# Altium footprint library 医疗床16x16.PcbLib: 31 footprints (part 1 of 2)
Each footprint in its own frame and in the unit in brackets; x right, y up, seen from the top. Pads: shape width x height; smd on the part's side, far side on the other; paste and mask are expansions set on the pad; w line width, h text height; cw(c..) or ccw(c..) is an arc to the next point about the centre after c.
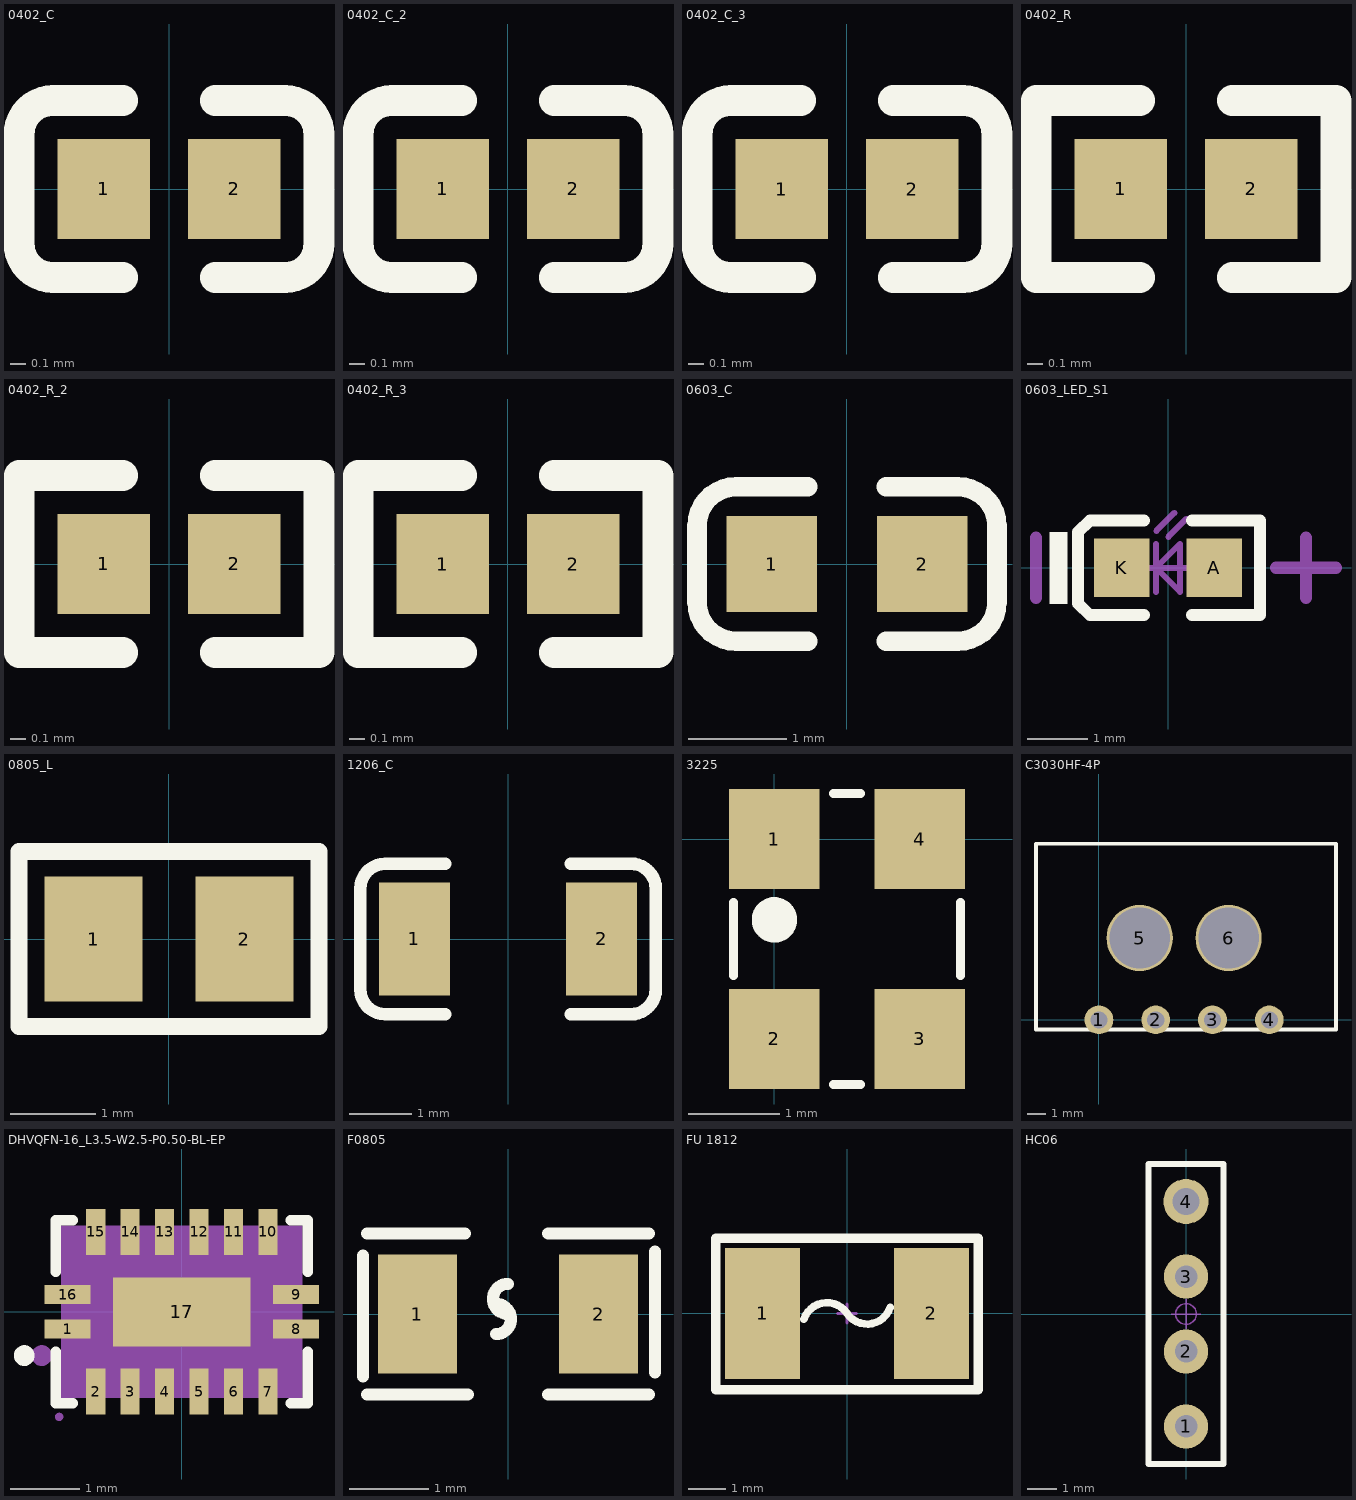
[diagram p0: the footprints below, top view; thin cyan lines are the x and y axes]

## 0402_C [mm]
pads (2):
  rect 0.6x0.65 smd mask+0.051: 1(-0.425,0) 2(0.425,0)
Top Overlay:
  lines w0.2: -0.755,-0.575 cw(c-0.755,-0.355) -0.975,-0.355 -0.975,0.355 cw(c-0.755,0.355) -0.755,0.575 ; -0.75,-0.575 -0.3,-0.575 ; -0.75,0.575 -0.3,0.575 ; 0.3,-0.575 0.75,-0.575 ; 0.3,0.575 0.75,0.575 ; 0.755,-0.575 ccw(c0.755,-0.355) 0.975,-0.355 0.975,0.355 ccw(c0.755,0.355) 0.755,0.575
3D body "0402 SMD Capacitor.step": height 0.2, standoff 0, extent -0.483,-0.3 0.518,0.3

## 0402_C_2 [mm]
pads (2):
  rect 0.6x0.65 smd mask+0.051: 1(-0.425,0) 2(0.425,0)
Top Overlay:
  lines w0.2: -0.755,-0.575 cw(c-0.755,-0.355) -0.975,-0.355 -0.975,0.355 cw(c-0.755,0.355) -0.755,0.575 ; -0.75,-0.575 -0.3,-0.575 ; -0.75,0.575 -0.3,0.575 ; 0.3,-0.575 0.75,-0.575 ; 0.3,0.575 0.75,0.575 ; 0.755,-0.575 ccw(c0.755,-0.355) 0.975,-0.355 0.975,0.355 ccw(c0.755,0.355) 0.755,0.575
3D body "0402 SMD Capacitor.step": height 0.2, standoff 0, extent -0.483,-0.3 0.517,0.3

## 0402_C_3 [mm]
pads (2):
  rect 0.6x0.65 smd mask+0.051: 1(-0.425,0) 2(0.425,0)
Top Overlay:
  lines w0.2: -0.755,-0.575 cw(c-0.755,-0.355) -0.975,-0.355 -0.975,0.355 cw(c-0.755,0.355) -0.755,0.575 ; -0.75,-0.575 -0.3,-0.575 ; -0.75,0.575 -0.3,0.575 ; 0.3,-0.575 0.75,-0.575 ; 0.3,0.575 0.75,0.575 ; 0.755,-0.575 ccw(c0.755,-0.355) 0.975,-0.355 0.975,0.355 ccw(c0.755,0.355) 0.755,0.575
3D body "0402 SMD Capacitor.step": height 0.2, standoff 0, extent -0.483,-0.3 0.517,0.3

## 0402_R [mm]
pads (2):
  rect 0.6x0.65 smd mask+0.051: 1(-0.425,0) 2(0.425,0)
Top Overlay:
  lines w0.2: -0.3,-0.575 -0.975,-0.575 -0.975,0.575 -0.3,0.575 ; 0.3,-0.575 0.975,-0.575 0.975,0.575 0.3,0.575
3D body "User Library-RES_1005-0402.STEP": height 0.41, standoff 0, extent -0.575,-0.275 0.575,0.275

## 0402_R_2 [mm]
pads (2):
  rect 0.6x0.65 smd mask+0.051: 1(-0.425,0) 2(0.425,0)
Top Overlay:
  lines w0.2: -0.3,-0.575 -0.975,-0.575 -0.975,0.575 -0.3,0.575 ; 0.3,-0.575 0.975,-0.575 0.975,0.575 0.3,0.575
3D body "User Library-RES_1005-0402.STEP": height 0.41, standoff 0, extent -0.575,-0.275 0.575,0.275

## 0402_R_3 [mm]
pads (2):
  rect 0.6x0.65 smd mask+0.051: 1(-0.425,0) 2(0.425,0)
Top Overlay:
  lines w0.2: -0.3,-0.575 -0.975,-0.575 -0.975,0.575 -0.3,0.575 ; 0.3,-0.575 0.975,-0.575 0.975,0.575 0.3,0.575
3D body "User Library-RES_1005-0402.STEP": height 0.41, standoff 0, extent -0.575,-0.275 0.575,0.275

## 0603_C [mm]
pads (2):
  rect 0.93x0.98 smd: 1(-0.77,0) 2(0.77,0)
Top Overlay:
  lines w0.2: -0.4,-0.79 -1.135,-0.79 cw(c-1.135,-0.39) -1.535,-0.39 -1.535,0.39 cw(c-1.135,0.39) -1.135,0.79 -0.4,0.79 ; 0.4,-0.79 1.135,-0.79 ccw(c1.135,-0.39) 1.535,-0.39 1.535,0.39 ccw(c1.135,0.39) 1.135,0.79 0.4,0.79
3D body "User Library-0603 SMD Capacitor.STEP": height 0.3, standoff 0, extent -0.8,-0.4 0.8,0.4

## 0603_LED_S1 [mm]
pads (2):
  rect 0.93x0.98 smd: A(0.77,0) K(-0.77,0)
Top Overlay:
  rectangle: -1.975,-0.6 -1.675,0.6
  lines w0.2: -0.4,-0.79 -1.3,-0.79 -1.5,-0.597 -1.5,0.597 -1.3,0.79 -0.4,0.79 ; 0.4,-0.79 1.535,-0.79 1.535,0.79 0.4,0.79
Mechanical 13:
  lines w0.1: -0.4,0 0.4,0 ; -0.2,-0.4 -0.2,0.4 ; -0.195,0.617 0.105,0.917 ; 0.005,0.517 0.305,0.817 ; -0.2,0 0.2,0.4 0.2,-0.4 -0.2,0
Mechanical 15:
  lines w0.203: -2.2,-0.5 -2.2,0.5 ; 1.8,0 2.8,0 ; 2.3,-0.5 2.3,0.5
3D body "User Library-LED_0603_R.STEP": height 0.6, standoff 0, extent -0.8,-0.4 0.8,0.4

## 0805_L [mm]
pads (2):
  rect 1.16x1.47 smd: 1(-0.89,0) 2(0.89,0)
Top Overlay:
  lines w0.2: -1.77,-1.035 -1.77,1.035 1.77,1.035 1.77,-1.035 -1.77,-1.035
3D body "L0805.STEP": height 0.6, standoff -0.02, extent -0.998,-0.638 1.005,0.637

## 1206_C [mm]
pads (2):
  rect 1.13x1.8 smd: 1(-1.49,0) 2(1.49,0)
Top Overlay:
  lines w0.2: -1,-1.2 -1.955,-1.2 cw(c-1.955,-0.8) -2.355,-0.8 -2.355,0.8 cw(c-1.955,0.8) -1.955,1.2 -1,1.2 ; 1,-1.2 1.955,-1.2 ccw(c1.955,-0.8) 2.355,-0.8 2.355,0.8 ccw(c1.955,0.8) 1.955,1.2 1,1.2
3D body "C1206.STEP": height 1, standoff 0, extent -1.602,-0.813 1.598,0.787

## 3225 [mm]
pads (4):
  rect 1x1.1 smd: 1(0,0) 2(0,-2.2) 3(1.6,-2.2) 4(1.6,0)
Top Overlay:
  circle w0.25: c0.002,-0.889 r0.125
  lines w0.1: -0.45,-1.5 -0.45,-0.7 ; 0.65,-2.7 0.95,-2.7 ; 0.65,0.5 0.95,0.5 ; 2.05,-1.5 2.05,-0.7
3D body "NDK NX3225SA.STEP": height 0.6, standoff 0, extent -0.503,-2.775 2.017,0.445

## C3030HF-4P [mm]
pads (6):
  round 1.524 hole 0.9: 1(0,0) 2(3,0) 3(6,0) 4(9,0)
  round 3.5 hole 3.2: 5(2.15,4.32) 6(6.85,4.32)
Top Overlay:
  lines w0.2: -0.762,-0.508 12.522,-0.508 12.522,9.296 -3.325,9.296 -3.325,-0.508 0,-0.508
3D body "4pin_2(1).stp": height 5.6, standoff -3.6, extent -3.304,-0.49 12.346,9.32

## DHVQFN-16_L3.5-W2.5-P0.50-BL-EP [mm]
pads (17):
  rect 0.665x0.28 smd: 1(-1.658,-0.25) 8(1.658,-0.25) 9(1.658,0.25) 16(-1.658,0.25)
  rect 0.28x0.665 smd: 2(-1.25,-1.158) 3(-0.75,-1.158) 4(-0.25,-1.158) 5(0.25,-1.158) 6(0.75,-1.158) 7(1.25,-1.158) 10(1.25,1.158) 11(0.75,1.158) 12(0.25,1.158) 13(-0.25,1.158) 14(-0.75,1.158) 15(-1.25,1.158)
  rect 2x1 smd: 17(0,0)
Top Overlay:
  circle w0.15: c-2.286,-0.635 r0.075
  lines w0.152: -1.826,-0.58 -1.826,-1.326 -1.58,-1.326 ; -1.826,0.581 -1.826,1.326 -1.58,1.326 ; 1.58,-1.326 1.826,-1.326 1.826,-0.58 ; 1.58,1.326 1.826,1.326 1.826,0.581
Mechanical 4:
  region: -1.75,-1.25 -1.75,1.25 1.75,1.25 1.75,-1.25
Mechanical 5:
  region: -1.37,-1.25 -1.37,-0.85 -1.13,-0.85 -1.13,-1.25
  region: -0.87,-1.25 -0.87,-0.85 -0.63,-0.85 -0.63,-1.25
  region: -0.37,-1.25 -0.37,-0.85 -0.13,-0.85 -0.13,-1.25
  region: 0.13,-1.25 0.13,-0.85 0.37,-0.85 0.37,-1.25
  region: 0.63,-1.25 0.63,-0.85 0.87,-0.85 0.87,-1.25
  region: 1.13,-1.25 1.13,-0.85 1.37,-0.85 1.37,-1.25
  region: 1.35,-0.37 1.35,-0.13 1.75,-0.13 1.75,-0.37
  region: 1.35,0.13 1.35,0.37 1.75,0.37 1.75,0.13
  region: 1.13,1.25 1.13,0.85 1.37,0.85 1.37,1.25
  region: 0.63,1.25 0.63,0.85 0.87,0.85 0.87,1.25
  region: 0.13,1.25 0.13,0.85 0.37,0.85 0.37,1.25
  region: -0.37,1.25 -0.37,0.85 -0.13,0.85 -0.13,1.25
  region: -0.87,1.25 -0.87,0.85 -0.63,0.85 -0.63,1.25
  region: -1.37,1.25 -1.37,0.85 -1.13,0.85 -1.13,1.25
  region: -1.35,0.13 -1.35,0.37 -1.75,0.37 -1.75,0.13
  region: -1.35,-0.37 -1.35,-0.13 -1.75,-0.13 -1.75,-0.37
  region: -1,-0.4 -1,0.5 1,0.5 1,-0.5 -0.9,-0.5
Mechanical 6:
  circle w0.06: c-1.778,-1.524 r0.03
Mechanical 15:
  circle w0.15: c-2.032,-0.635 r0.075
3D body "User Library-User Library-DHVQFN 16-1.STEP": height 1, standoff -0.05, extent -1.81,-1.31 1.81,1.31

## F0805 [mm]
pads (2):
  rect 1x1.5 smd: 1(-1.142,0) 2(1.142,0)
Top Overlay:
  lines w0.152: -1.829,-0.787 -1.829,0.737 ; -1.778,-1.016 -0.508,-1.016 ; -1.778,1.016 -0.545,1.016 ; -0.152,-0.254 ccw(c-0.152,-0.064) -0.152,0.127 ; 0,0 cw(c0,0.191) 0,0.381 ; 0.508,-1.016 1.778,-1.016 ; 0.508,1.016 1.778,1.016 ; 1.854,-0.737 1.854,0.787
3D body "FU 0805.STEP": height 0.52, standoff 0, extent -1,-0.584 1,0.636

## FU 1812 [mm]
pads (2):
  rect 2x3.5 smd: 1(-2.25,0) 2(2.25,0)
Top Overlay:
  lines w0.203: -1.15,-0.156 cw(c-0.537,-0.362) 0,0 ccw(c0.537,0.362) 1.15,0.156
  lines w0.254: -3.5,-2.032 3.5,-2.032 ; -3.5,-2 -3.5,2 0,2 ; 2.159,2 3.5,2 3.5,-2 ; 2.54,2 -0.254,2 ; -0.254,2 -0.254,2
Mechanical 15:
  lines w0.076: -0.254,0 0.254,0 ; 0,-0.254 0,0.254
3D body "FU 01812.STEP": height 0.87, standoff 0, extent -2.3,-1.61 2.3,1.61

## HC06 [mm]
pads (4):
  round 1.5 hole 0.762: 1(0,-3.81) 2(0,-1.27) 3(0,1.27)
  round 1.524 hole 0.9: 4(0,3.81)
Top Overlay:
  lines w0.2: -1.27,-5.08 -1.27,5.08 1.27,5.08 1.27,-5.08 -1.27,-5.08
Mechanical 15:
  circle w0.05: c0,0 r0.35
  lines w0.05: -0.5,0 0.5,0 ; 0,-0.5 0,0.5
3D body "female_header_a-bl254-ea-g02d.stp": height 2.52, standoff -3.18, extent -0.281,-0.127 9.779,5.203
3D body "female_header_a-bl254-ea-g02d.stp": height 2.52, standoff -3.18, extent -0.281,-5.205 9.779,0.125